# Altium footprint library CON4_70553RA.PcbLib: 1 footprints
Each footprint in its own frame and in the unit in brackets; x right, y up, seen from the top. Pads: shape width x height; smd on the part's side, far side on the other; paste and mask are expansions set on the pad; w line width, h text height; cw(c..) or ccw(c..) is an arc to the next point about the centre after c.
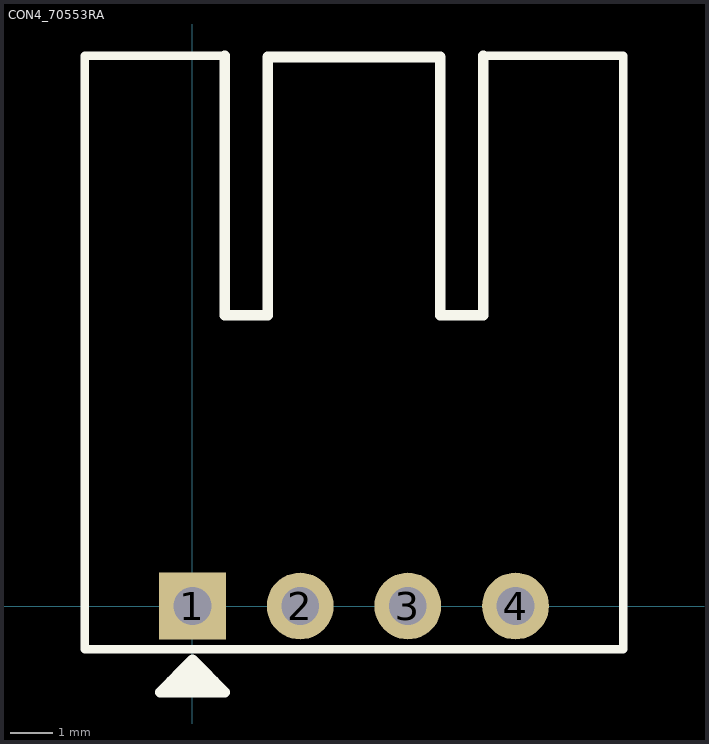
[diagram p0: the footprint, top view; thin cyan lines are the x and y axes]

## CON4_70553RA [mil] "Shrouded 4x1 0.1\" pitch RA"
height 390
pads (4):
  rect 62x62 hole 35: 1(0,0)
  round 62 hole 35: 2(100,0) 3(200,0) 4(300,0)
TopOverlay:
  lines w8: 30,511 -100,511 -100,-40 400,-40 400,511 270,511
  lines w10: -20,-70 20,-70 ; -10,-60 10,-60 ; 30,511 30,270 70,270 70,510 230,510 230,270 270,270 270,511 ; -30,-80 30,-80 0,-50 -30,-80
Mechanical4:
  text ".300" at 0,0 h1
  text ".358" at 0,-1 h1
3D body: height 275, standoff -130, extent -100,-27 400,508